# EAGLE library part 2:1_MUX_NC7SZ157P6X (library AudioSwitch)
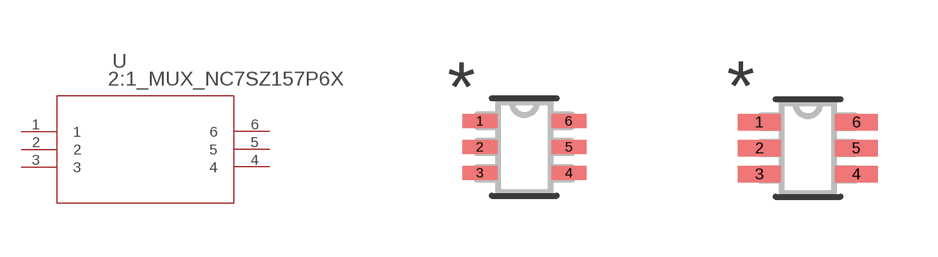
[diagram p0: symbol with the pads of SOIC_Z157P6X_ONS; footprints SOIC_Z157P6X_ONS, SOIC_Z157P6X_ONS-M]

Designator prefix U

## 2:1_MUX_NC7SZ157P6X (DATASHEET: https://datasheet.octopart.com/NC7SZ157P6X-ON-Semiconductor-datasheet-137360983.pdf; MANUFACTURER_PART_NUMBER: NC7SZ157P6X; SOURCELIBRARY: ON_Semiconductor_2020-03-06; VENDOR: ON Semiconductor)  [SOIC_Z157P6X_ONS]
1  1
2  2  pas
3  3
4  4  pas
5  5  pwr
6  6  pas

## 2:1_MUX_NC7SZ157P6XSOIC_Z157P6X_ONS-M (DATASHEET: https://datasheet.octopart.com/NC7SZ157P6X-ON-Semiconductor-datasheet-137360983.pdf; MANUFACTURER_PART_NUMBER: NC7SZ157P6X; SOURCELIBRARY: ON_Semiconductor_2020-03-06; VENDOR: ON Semiconductor)  [SOIC_Z157P6X_ONS-M]
Pads as for SOIC_Z157P6X_ONS

## 2:1_MUX_NC7SZ157P6XSOIC_Z157P6X_ONS-L (DATASHEET: https://datasheet.octopart.com/NC7SZ157P6X-ON-Semiconductor-datasheet-137360983.pdf; MANUFACTURER_PART_NUMBER: NC7SZ157P6X; SOURCELIBRARY: ON_Semiconductor_2020-03-06; VENDOR: ON Semiconductor)  [SOIC_Z157P6X_ONS-L]
Pads as for SOIC_Z157P6X_ONS

## Footprint SOIC_Z157P6X_ONS (pad centres in mm)
smd 0.876 x 0.356: 1 -1.111,0.65; 2 -1.111,0; 3 -1.111,-0.65; 4 1.111,-0.65; 5 1.111,0; 6 1.111,0.65

## Footprint SOIC_Z157P6X_ONS-M (pad centres in mm)
smd 1.079 x 0.406: 1 -1.213,0.65; 2 -1.213,0; 3 -1.213,-0.65; 4 1.213,-0.65; 5 1.213,0; 6 1.213,0.65

## Footprint SOIC_Z157P6X_ONS-L (pad centres in mm)
smd 0.673 x 0.305: 1 -1.01,0.65; 2 -1.01,0; 3 -1.01,-0.65; 4 1.01,-0.65; 5 1.01,0; 6 1.01,0.65